# Altium footprint library lianchen_lib.PcbLib: 233 footprints (part 4 of 15)
Each footprint in its own frame and in the unit in brackets; x right, y up, seen from the top. Pads: shape width x height; smd on the part's side, far side on the other; paste and mask are expansions set on the pad; w line width, h text height; cw(c..) or ccw(c..) is an arc to the next point about the centre after c.
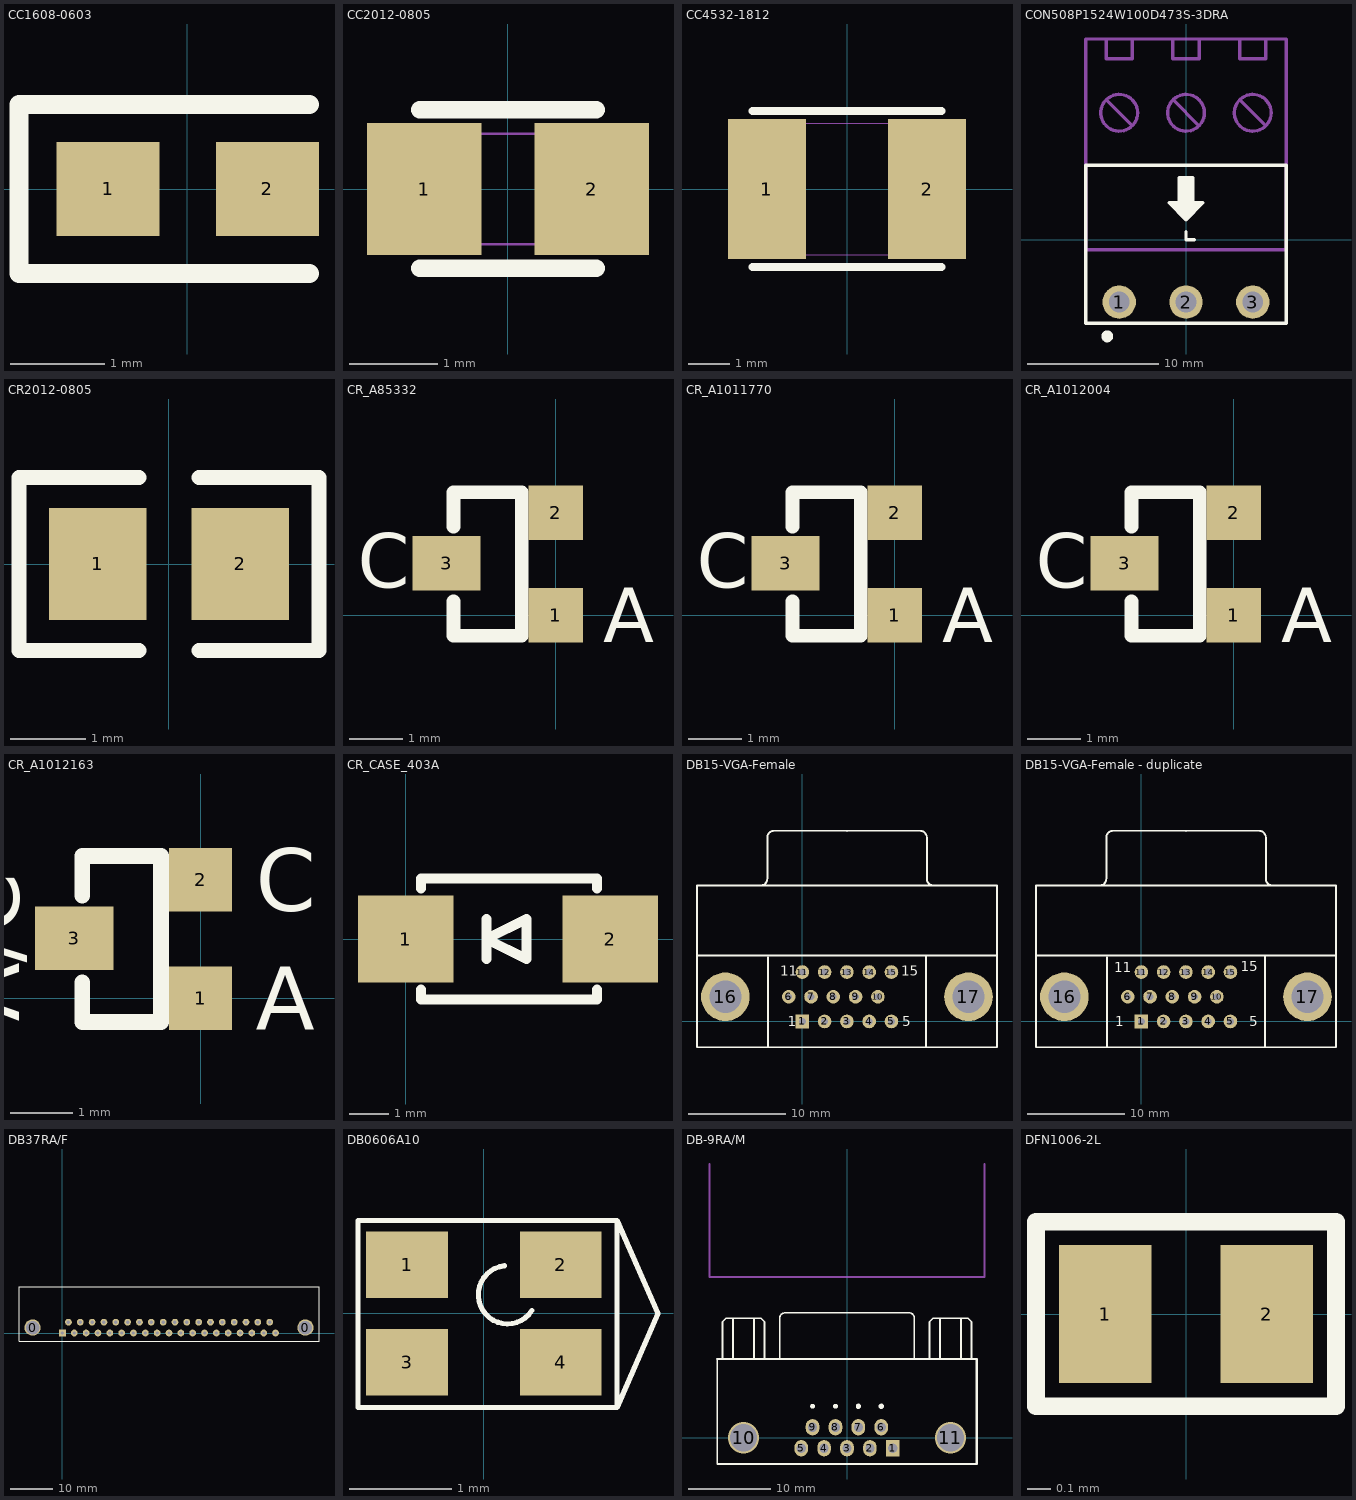
[diagram p3: the footprints below, top view; thin cyan lines are the x and y axes]

## CC1608-0603 [mm]
pads (2):
  rect 1.1x1 smd: 1(-0.843,0.001) 2(0.857,0.001)
Top Overlay:
  lines w0.2: 1.307,-0.899 -1.793,-0.899 -1.793,0.901 1.307,0.901
3D body: height 0.76, standoff 0, extent -1.46,-0.572 1.46,0.572

## CC2012-0805 [mm]
pads (2):
  rect 1.3x1.5 smd: 1(-0.95,0) 2(0.95,0)
Top Overlay:
  lines w0.2: -1,-0.9 1,-0.9 ; -1,0.9 1,0.9
Mechanical 15:
  lines w0.025: -0.975,-0.625 -0.975,0.625 0.975,0.625 0.975,-0.625 -0.975,-0.625

## CC4532-1812 [mm]
pads (2):
  rect 1.9x3.4 smd: 1(-1.95,0) 2(1.95,0)
Top Overlay:
  lines w0.2: -2.3,-1.9 2.3,-1.9 ; -2.3,1.9 2.3,1.9
Mechanical 15:
  lines w0.025: -2.25,-1.6 -2.25,1.6 2.25,1.6 2.25,-1.6 -2.25,-1.6

## CON508P1524W100D473S-3DRA [mm]
pads (3):
  round 2.54 hole 1.575: 1(-5.08,-4.73) 2(0,-4.73) 3(5.08,-4.73)
Top Overlay:
  circle w0.5: c-5.991,-7.341 r0.2
  region: -1.27,2.814 0,1.544 1.27,2.814 0.508,2.814 0.508,4.719 -0.508,4.719 -0.508,2.814
  lines w0.254: 0,0.635 0,0 0.635,0 ; -7.62,-6.33 -7.62,5.67 7.62,5.67 7.62,-6.33 -7.62,-6.33 ; -1.27,2.814 -0.508,2.814 -0.508,4.719 0.508,4.719 0.508,2.814 1.27,2.814 0,1.544 -1.27,2.814
Mechanical 16:
  circle w0.254: c5.08,9.67 r1.4
  circle w0.254: c0,9.67 r1.4
  circle w0.254: c-5.08,9.67 r1.4
  lines w0.254: -6.08,15.284 -6.08,13.77 -4.08,13.77 -4.08,15.284 ; -5.98,10.57 -4.18,8.77 ; -1,15.284 -1,13.77 1,13.77 1,15.284 ; -0.9,10.57 0.9,8.77 ; 4.08,15.284 4.08,13.77 6.08,13.77 6.08,15.284 ; 4.18,10.57 5.98,8.77 ; -7.62,-0.762 7.62,-0.762 7.62,15.284 -7.62,15.284 -7.62,-0.762
  text "外部链接" at -3.683,2.54 h2.03

## CR2012-0805 [mm]
pads (2):
  rect 1.3x1.5 smd: 1(-0.946,0) 2(0.954,0)
Top Overlay:
  lines w0.2: -0.396,-1.15 -1.996,-1.15 -1.996,1.15 -0.396,1.15 ; 0.404,-1.15 2.004,-1.15 2.004,1.15 0.404,1.15
3D body: height 0.76, standoff 0, extent -1.524,-0.699 1.524,0.699

## CR_A85332 [mil]
pads (3):
  rect 40x40 smd: 1(0,0) 2(0,75)
  rect 50x40 smd: 3(-80,38)
Top Overlay:
  lines w10: -75,10 -75,-15 -25,-15 -25,90 -75,90 -75,65
  text "A" at 35,-20 h40
  text "C" at -145,20 h40

## CR_A1011770 [mil]
pads (3):
  rect 40x40 smd: 1(0,0) 2(0,75)
  rect 50x40 smd: 3(-80,38)
Top Overlay:
  lines w10: -75,10 -75,-15 -25,-15 -25,90 -75,90 -75,65
  text "A" at 35,-20 h40
  text "C" at -145,20 h40

## CR_A1012004 [mil]
pads (3):
  rect 40x40 smd: 1(0,0) 2(0,75)
  rect 50x40 smd: 3(-80,38)
Top Overlay:
  lines w10: -75,10 -75,-15 -25,-15 -25,90 -75,90 -75,65
  text "C" at -145,20 h40
  text "A" at 35,-20 h40

## CR_A1012163 [mil]
pads (3):
  rect 40x40 smd: 1(0,0) 2(0,75)
  rect 50x40 smd: 3(-80,38)
Top Overlay:
  lines w10: -75,10 -75,-15 -25,-15 -25,90 -75,90 -75,65
  text "A" at 35,-20 h40
  text "A/C" at -115,-15 h40
  text "C" at 35,55 h40

## CR_CASE_403A [mil]
pads (2):
  rect 95x86 smd: 1(0,0) 2(203,0)
Top Overlay:
  lines w10: 15,-50 15,-60 190,-60 190,-50 ; 15,50 15,60 190,60 190,50 ; 80,-20 80,20 ; 80,0 120,-20 120,20 80,0

## DB15-VGA-Female [mm]
pads (17):
  rect 1.4x1.4 hole 0.7: 1(0,0)
  round 1.4 hole 0.7: 2(2.29,0) 3(4.58,0) 4(6.87,0) 5(9.16,0) 6(-1.4,2.54) 7(0.89,2.54) 8(3.18,2.54) 9(5.47,2.54) 10(7.76,2.54) 11(0,5.08) 12(2.29,5.08) 13(4.58,5.08) 14(6.87,5.08) 15(9.16,5.08)
  round 5 hole 3.3: 16(-7.915,2.54) 17(17.075,2.54)
Top Overlay:
  lines w0.2: -10.83,6.77 20.01,6.77 ; -4.3,13.975 ccw(c-4.3,14.67) -3.605,14.67 -3.605,18.91 cw(c-2.91,18.91) -2.91,19.605 4.595,19.59 12.1,19.605 cw(c12.1,18.91) 12.795,18.91 12.795,14.67 ccw(c13.49,14.67) 13.49,13.975 ; -3.535,-2.65 -3.535,6.57 ; 12.725,-2.65 12.725,6.65 ; -10.83,-2.65 20.01,-2.65 20.01,13.97 -10.83,13.97 -10.83,-2.65
  text "1" at -1.524,-0.508 h1
  text "15" at 10.16,4.699 h1
  text "5" at 10.287,-0.508 h1
  text "11" at -2.286,4.699 h1

## DB15-VGA-Female - duplicate [mm]
pads (17):
  rect 1.4x1.4 hole 0.7: 1(0,0)
  round 1.4 hole 0.7: 2(2.29,0) 3(4.58,0) 4(6.87,0) 5(9.16,0) 6(-1.4,2.54) 7(0.89,2.54) 8(3.18,2.54) 9(5.47,2.54) 10(7.76,2.54) 11(0,5.08) 12(2.29,5.08) 13(4.58,5.08) 14(6.87,5.08) 15(9.16,5.08)
  round 5 hole 3.3: 16(-7.915,2.54) 17(17.075,2.54)
Top Overlay:
  lines w0.2: -10.83,6.77 20.01,6.77 ; -4.3,13.975 ccw(c-4.3,14.67) -3.605,14.67 -3.605,18.91 cw(c-2.91,18.91) -2.91,19.605 4.595,19.59 12.1,19.605 cw(c12.1,18.91) 12.795,18.91 12.795,14.67 ccw(c13.49,14.67) 13.49,13.975 ; -3.535,-2.65 -3.535,6.57 ; 12.725,-2.65 12.725,6.65 ; -10.83,-2.65 20.01,-2.65 20.01,13.97 -10.83,13.97 -10.83,-2.65
  text "1" at -2.7,-0.5 h1
  text "15" at 10.195,5.17 h1
  text "5" at 11.1,-0.5 h1
  text "11" at -2.805,5.07 h1

## DB37RA/F [mil]
pads (39):
  round 150 hole 125: 0(-275,50) 0(2237,50)
  rect 62x62 hole 32: 1(0,0)
  round 62 hole 32: 2(109,0) 3(218,0) 4(327,0) 5(436,0) 6(545,0) 7(654,0) 8(763,0) 9(872,0) 10(981,0) 11(1090,0) 12(1199,0) 13(1308,0) 14(1417,0) 15(1526,0) 16(1635,0) 17(1744,0) 18(1853,0) 19(1962,0) 20(55,100) 21(164,100) 22(273,100) 23(382,100) 24(491,100) 25(600,100) 26(709,100) 27(818,100) 28(927,100) 29(1036,100) 30(1145,100) 31(1254,100) 32(1363,100) 33(1472,100) 34(1581,100) 35(1690,100) 36(1799,100) 37(1908,100)
Top Overlay:
  lines w8: -400,-75 2362,-75 2362,425
  lines w10: -400,-75 -400,425 2362,425

## DB0606A10 [mm]
height 0.55
pads (4):
  rect 0.8x0.65 smd: 1(-0.75,0.475) 2(0.75,0.475) 3(-0.75,-0.475) 4(0.75,-0.475)
Top Overlay:
  lines w0.05: 1.3,-0.92 -1.23,-0.92 -1.23,0.91 1.3,0.91 ; 1.3,-0.92 1.3,0.91 ; 1.3,-0.92 1.7,0 1.3,0.91
  lines w0.051: 0.2,0.466 ccw(c0.23,0.183) 0.47,0.03

## DB-9RA/M [mil] "90度 针（公）"
height 472.44
pads (11):
  rect 65x78 hole 43.31: 1(218,-50)
  oval 65x78 hole 43.31: 2(109,-50) 3(0,-50) 4(-109,-50) 5(-218,-50) 6(163,50) 7(54,50) 8(-55,50) 9(-164,50)
  round 150 hole 130: 10(-493,0) 11(493,0)
Top Overlay:
  circle w12: c-54.74,150 r5.36
  circle w12: c163.26,150 r6.26
  circle w12: c54.26,150 r6.34
  circle w12: c-163.74,150 r5.36
  lines w8: -618,375 -618,-125 618,-125 ; -593,375 -593,553 -576,570 -410,570 -393,553 -393,375 ; -543,375 -543,570 ; -443,375 -443,570 ; -320,375 -320,570 cw(c-295,570) -295,595 296,595 cw(c296,570) 321,570 321,375 ; 393,375 393,553 410,570 576,570 593,553 593,375 ; 443,375 443,570 ; 543,375 543,570
  lines w10: -618,375 618,375 618,-125
Mechanical 15:
  lines w8: -655,1304 -655,766 655,766 655,1304
  text "外面插头的宽度，放置时请注意" at -460,854 h70
3D body "db9-m.stp": height 515.91, standoff -114.02, extent -604.24,-138 616.24,590.35

## DFN1006-2L [mm]
height 0.4
pads (2):
  rect 0.4x0.6 smd: 1(-0.35,0) 2(0.35,0)
Top Overlay:
  lines w0.076: -0.65,-0.4 -0.65,0.4 0.65,0.4 0.65,-0.4 -0.65,-0.4